# EAGLE library part 1X05 (library telemetry-board)
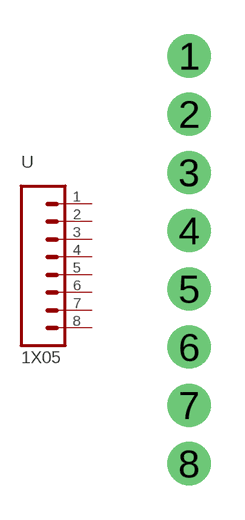
[diagram p2: symbol with the pads of DIP-1X5; footprint DIP-1X5]

Designator prefix -

## 1X05  [DIP-1X5]
1  1  pas
2  2  pas
3  3  pas
4  4  pas
5  5  pas
6  6  pas
7  7  pas
8  8  pas

## Footprint DIP-1X5 (pad centres in mm)
drill 1.016 pad 1.88: 1 0,10.16; 2 0,7.62; 3 0,5.08; 4 0,2.54; 5 0,0; 6 0,-2.54; 7 0,-5.08; 8 0,-7.62